# Altium footprint library Home.PcbLib: 6 footprints
Each footprint in its own frame and in the unit in brackets; x right, y up, seen from the top. Pads: shape width x height; smd on the part's side, far side on the other; paste and mask are expansions set on the pad; w line width, h text height; cw(c..) or ccw(c..) is an arc to the next point about the centre after c.
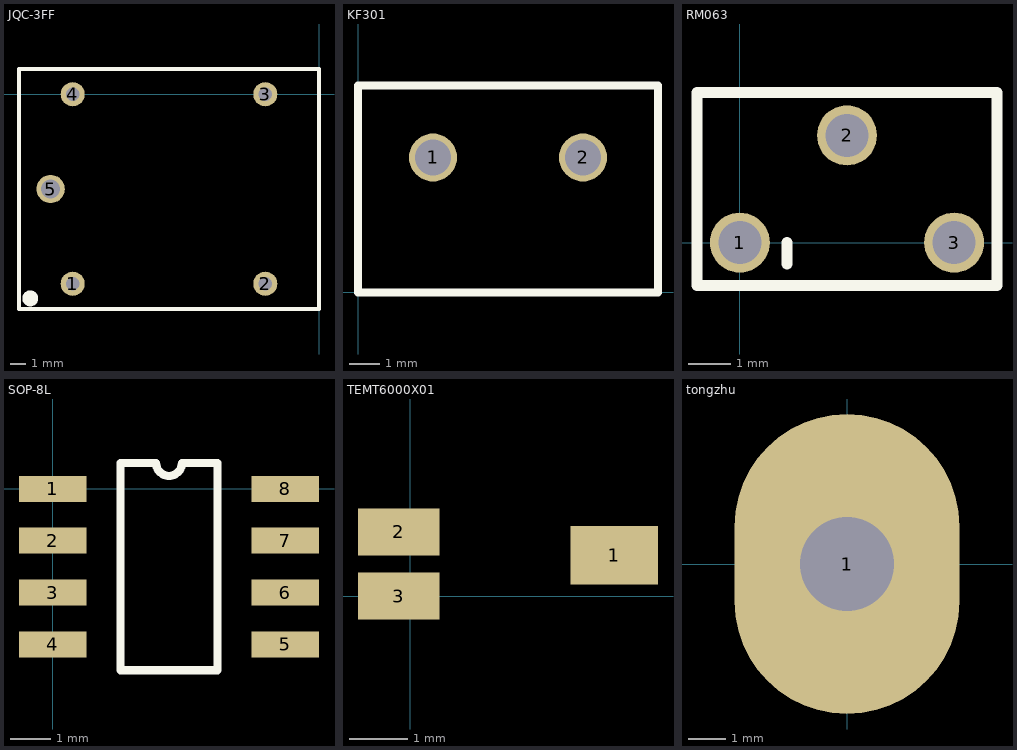
[diagram p0: the footprints below, top view; thin cyan lines are the x and y axes]

## JQC-3FF [mm] "继电器"
height 15
pads (5):
  round 1.524 hole 0.862: 1(-15.6,-12) 2(-3.4,-12) 3(-3.4,0) 4(-15.6,0)
  round 1.8 hole 1.2: 5(-17,-6)
Top Overlay:
  circle w0.5: c-18.288,-12.929 r0.25
  lines w0.254: -19,-13.6 0,-13.6 0,1.6 -19,1.6 -19,-13.6

## KF301 [mm] "接线端子"
height 10
pads (2):
  round 1.6 hole 1.2: 1(2.5,4.5) 2(7.5,4.5)
Top Overlay:
  lines w0.254: 0,0 0,6.9 10,6.9 10,0 0,0

## RM063 [mm] "电位器"
height 2.55
pads (3):
  round 1.4 hole 1: 1(0,0) 2(2.5,2.5) 3(5,0)
Top Overlay:
  lines w0.254: 1.1,-0.5 1.1,0 ; -1,-1 6,-1 6,3.5 -1,3.5 -1,-1

## SOP-8L [mil]
pads (8):
  rect 65x25 smd: 1(0,0) 2(0,-50) 3(0,-100) 4(0,-150) 5(224.41,-150) 6(224.41,-100) 7(224.41,-50) 8(224.41,0)
Top Overlay:
  lines w7.87: 65.37,-175 65.37,25 99.7,25 ccw(c112.2,25) 124.7,25 159.04,25 159.04,-175 65.37,-175

## TEMT6000X01 [mm] "光感"
height 1.2
pads (3):
  rect 1.5x1 smd: 1(3.5,0.7)
  rect 1.4x0.8 smd: 2(-0.2,1.1) 3(-0.2,0)

## tongzhu [mm] "铜柱焊盘"
pads (1):
  oval 6x8 hole 2.5 square: 1(0,0)